# EAGLE library part ACPL-7900-300E (library Avago_By_element14_Batch_1)
Precision Isolation Amplifiers
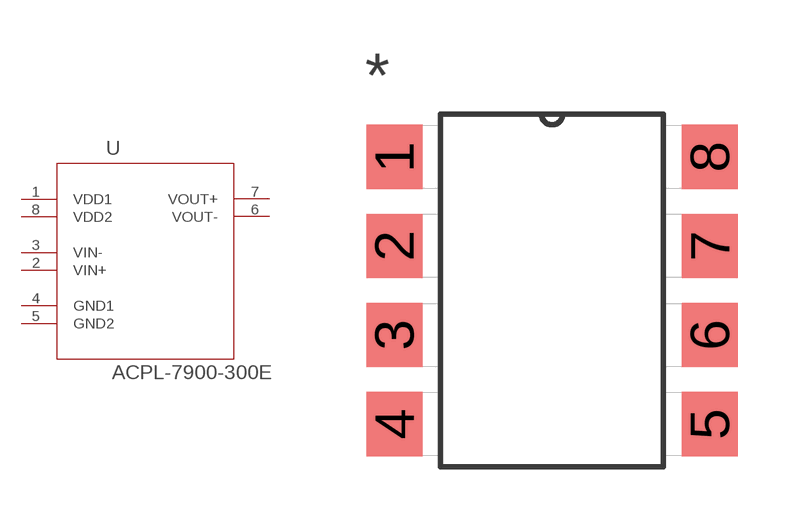
[diagram p4: symbol with the pads of DIP254P965X369-8; footprint DIP254P965X369-8]

Designator prefix U

## ACPL-7900-300E (MPN: ACPL-7900-300E; OC_FARNELL: 1897176; OC_NEWARK: 24T5967; PACKAGE: DIP-8; SUPPLIER: AVAGO TECHNOLOGIES)  [DIP254P965X369-8]
1  VDD1  pwr
2  VIN+  in
3  VIN-  in
4  GND1  pas
5  GND2  pas
6  VOUT-  out
7  VOUT+  out
8  VDD2  pwr

## Footprint DIP254P965X369-8 (pad centres in mm)
smd 1.6 x 1.829: 1 -4.496,3.81; 2 -4.496,1.27; 3 -4.496,-1.27; 4 -4.496,-3.81; 5 4.496,-3.81; 6 4.496,-1.27; 7 4.496,1.27; 8 4.496,3.81